# Altium schematic symbol library DRClib.SchLib: 31 symbols
Pins are listed as number, name and electrical type; pins without a type are passive.

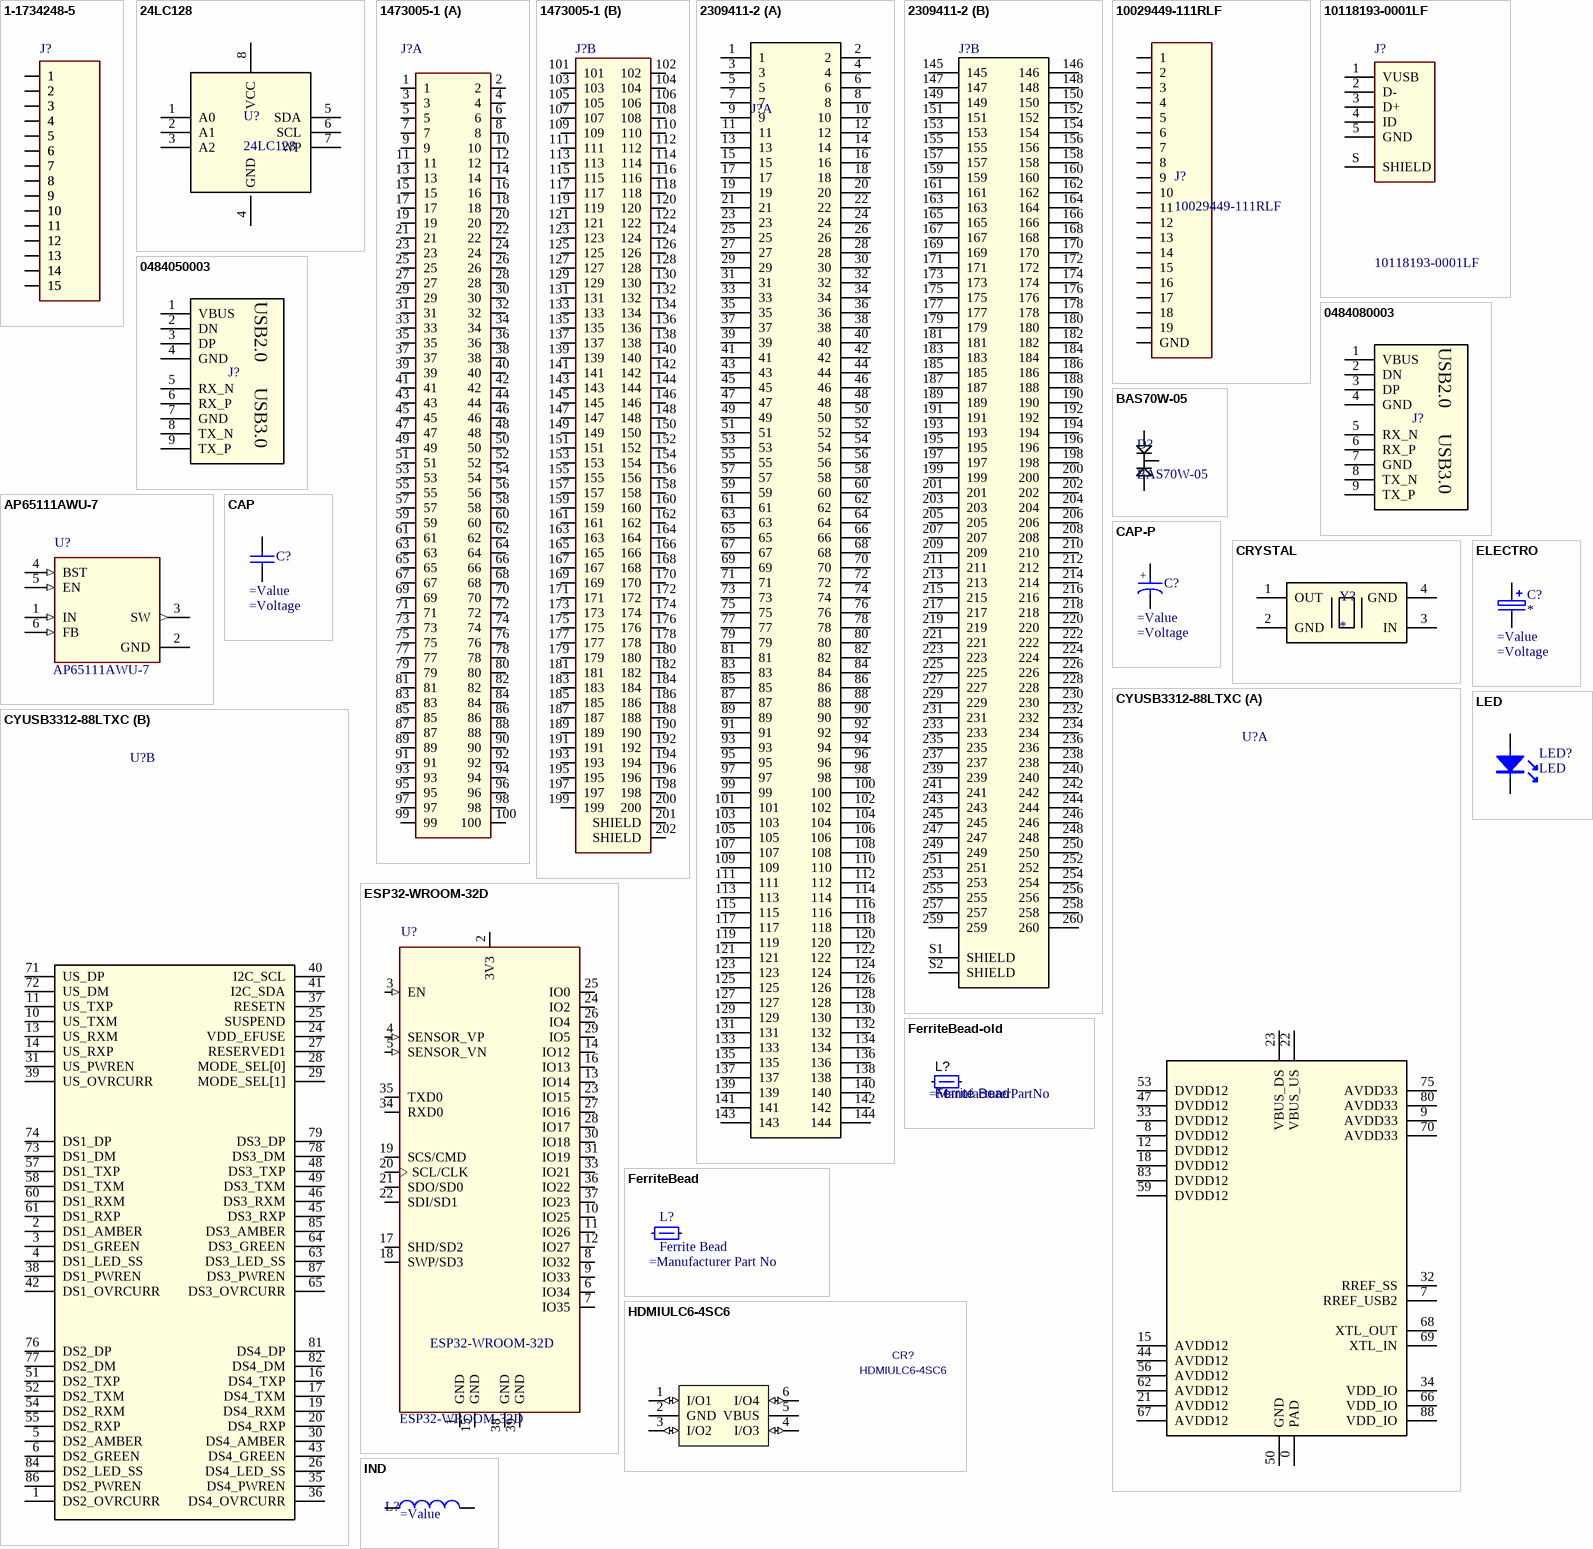
[diagram p0: symbols 1-1734248-5 to LED]

## 1-1734248-5
designator J?  (value not drawn)
Conn FPC Connector SKT 15 POS 1mm Solder ST SMD T/R; MF: TE Connectivity; Digi-Key_Part_Number: A101418CT-ND; Digi-Key_Purchase_URL: https://www.digikey.com.au/product-detail/en/te-connectivity-amp-connectors/1-1734248-5/A101418CT-ND/2567554?utm_source=snapeda&utm_medium=aggregator&utm_campaign=symbol; Package: None; SnapEDA_Link: https://www.snapeda.com/parts/1-1734248-5/TE%20Connectivity%20AMP%20Connectors/view-part/?ref=snap; TE_purchase_URL: https://www.te.com/usa-en/product-1-1734248-5.html?te_bu=Cor&te_type=disp&te_campaign=seda_glo_cor-seda-global-disp-prtnr-fy19-seda-model-bom-cta_sma-317_1&elqCampaignId=32493; MP: 1-1734248-5; EU_RoHS_Compliance: Compliant; Value: *
footprint *TE_1-1734248-5_1-1734248-5(Primary)
footprint 1-1734248-5
pins: 1, 1_1 1, 2, 2_1 2, 3, 3_1 3, 4, 4_1 4, 5, 5_1 5, 6, 6_1 6, 7, 7_1 7, 8, 8_1 8, 9, 9_1 9, 10, 10_1 10, 11, 11_1 11, 12, 12_1 12, 13, 13_1 13, 14, 14_1 14, 15, 15_1 15

## 24LC128
designator U?
IC EEPROM 128K I2C 400KHZ
footprint 24LC128T-I/SN (IC EEPROM 128K I2C 400KHZ 8SOIC)
pins: 1 A0, 2 A1, 3 A2, 4 GND, 5 SDA, 6 SCL, 7 WP, 8 VCC

## 1473005-1
designator J?  (value not drawn)
SEMI HARD TRAY DDR SOCKET 200P; Number_of_Positions: 200; Centerline_Pitch: .6 mm[.024 in]; MF: TE Connectivity; MP: 1473005-1; Product_Type: Socket; Digi-Key_Purchase_URL: https://www.digikey.com.au/product-detail/en/te-connectivity-amp-connectors/1473005-1/A99605-ND/1890691?utm_source=snapeda&utm_medium=aggregator&utm_campaign=symbol; SnapEDA_Link: https://www.snapeda.com/parts/1473005-1/TE%20Connectivity%20AMP%20Connectors/view-part/?ref=snap; TE_purchase_URL: https://www.te.com/usa-en/product-1473005-1.html?te_bu=Cor&te_type=disp&te_campaign=seda_glo_cor-seda-global-disp-prtnr-fy19-seda-model-bom-cta_sma-317_1&elqCampaignId=32493; Package: None; Digi-Key_Part_Number: A99605-ND; Value: *
footprint 1473005-1
part A pins: 1, 2, 3, 4, 5, 6, 7, 8, 9, 10, 11, 12, 13, 14, 15, 16, 17, 18, 19, 20, 21, 22, 23, 24, 25, 26, 27, 28, 29, 30, 31, 32, 33, 34, 35, 36, 37, 38, 39, 40, 41, 42, 43, 44, 45, 46, 47, 48, 49, 50, 51, 52, 53, 54, 55, 56, 57, 58, 59, 60, 61, 62, 63, 64, 65, 66, 67, 68, 69, 70, 71, 72, 73, 74, 75, 76, 77, 78, 79, 80, 81, 82, 83, 84, 85, 86, 87, 88, 89, 90, 91, 92, 93, 94, 95, 96, 97, 98, 99, 100
part B pins: 101, 102, 103, 104, 105, 106, 107, 108, 109, 110, 111, 112, 113, 114, 115, 116, 117, 118, 119, 120, 121, 122, 123, 124, 125, 126, 127, 128, 129, 130, 131, 132, 133, 134, 135, 136, 137, 138, 139, 140, 141, 142, 143, 144, 145, 146, 147, 148, 149, 150, 151, 152, 153, 154, 155, 156, 157, 158, 159, 160, 161, 162, 163, 164, 165, 166, 167, 168, 169, 170, 171, 172, 173, 174, 175, 176, 177, 178, 179, 180, 181, 182, 183, 184, 185, 186, 187, 188, 189, 190, 191, 192, 193, 194, 195, 196, 197, 198, 199, 200, 201 SHIELD, 202 SHIELD

## 2309411-2
designator J?  (value not drawn)
DDR4 SODIMM 260P 8.0H STD; Centerline_Pitch: .5 mm[.0197 in]; Number_of_Positions: 260; MF: TE Connectivity; Product_Type: Socket; MP: 2309411-2; SnapEDA_Link: https://www.snapeda.com/parts/2309411-2/TE%20Connectivity/view-part/?ref=snap; TE_purchase_URL: https://www.te.com/usa-en/product-2309411-2.html?te_bu=Cor&te_type=disp&te_campaign=seda_glo_cor-seda-global-disp-prtnr-fy19-seda-model-bom-cta_sma-317_1&elqCampaignId=32493; Package: None; EU_RoHS_Compliance: Compliant; Price: None; Value: *
footprint TE_2309411
part A pins: 1, 2, 3, 4, 5, 6, 7, 8, 9, 10, 11, 12, 13, 14, 15, 16, 17, 18, 19, 20, 21, 22, 23, 24, 25, 26, 27, 28, 29, 30, 31, 32, 33, 34, 35, 36, 37, 38, 39, 40, 41, 42, 43, 44, 45, 46, 47, 48, 49, 50, 51, 52, 53, 54, 55, 56, 57, 58, 59, 60, 61, 62, 63, 64, 65, 66, 67, 68, 69, 70, 71, 72, 73, 74, 75, 76, 77, 78, 79, 80, 81, 82, 83, 84, 85, 86, 87, 88, 89, 90, 91, 92, 93, 94, 95, 96, 97, 98, 99, 100, 101, 102, 103, 104, 105, 106, 107, 108, 109, 110, 111, 112, 113, 114, 115, 116, 117, 118, 119, 120, 121, 122, 123, 124, 125, 126, 127, 128, 129, 130, 131, 132, 133, 134, 135, 136, 137, 138, 139, 140, 141, 142, 143, 144
part B pins: 145, 146, 147, 148, 149, 150, 151, 152, 153, 154, 155, 156, 157, 158, 159, 160, 161, 162, 163, 164, 165, 166, 167, 168, 169, 170, 171, 172, 173, 174, 175, 176, 177, 178, 179, 180, 181, 182, 183, 184, 185, 186, 187, 188, 189, 190, 191, 192, 193, 194, 195, 196, 197, 198, 199, 200, 201, 202, 203, 204, 205, 206, 207, 208, 209, 210, 211, 212, 213, 214, 215, 216, 217, 218, 219, 220, 221, 222, 223, 224, 225, 226, 227, 228, 229, 230, 231, 232, 233, 234, 235, 236, 237, 238, 239, 240, 241, 242, 243, 244, 245, 246, 247, 248, 249, 250, 251, 252, 253, 254, 255, 256, 257, 258, 259, 260, S1 SHIELD, S2 SHIELD

## 10029449-111RLF
designator J?
CONN RCPT 1.4 HDMI 19POS R/A
footprint 10029449-111RLF (CONN RCPT 1.4 HDMI 19POS SMD R/A)
pins: 0 GND, 1, 2, 3, 4, 5, 6, 7, 8, 9, 10, 11, 12, 13, 14, 15, 16, 17, 18, 19

## 10118193-0001LF
designator J?
Single Port 5 Contact Shielded SMT MICRO USB B-Type Receptacle; MF: Amphenol ICC; Package: None; Digi-Key_Part_Number: 609-4616-1-ND; MP: 10118193-0001LF; Digi-Key_Purchase_URL: https://www.digikey.com.au/product-detail/en/amphenol-icc-fci/10118193-0001LF/609-4616-1-ND/2785380?utm_source=snapeda&utm_medium=aggregator&utm_campaign=symbol; SnapEDA_Link: https://www.snapeda.com/parts/10118193-0001LF/Amphenol%20ICC/view-part/?ref=snap; Value: *
footprint 10118193-0001LF
pins: 1 VUSB, 2 D-, 3 D+, 4 ID, 5 GND, S SHIELD

## 0484050003
designator J?
USB3.0 Recepticle Right Angle
footprint 0484050003 (USB3.0 Recepticle)
pins: 1 VBUS, 2 DN, 3 DP, 4 GND, 5 RX_N, 6 RX_P, 7 GND, 8 TX_N, 9 TX_P
text: USB2.0; USB3.0

## 0484080003
designator J?
USB3.0 Recepticle Vertical
footprint 0484080003 (USB3.0 Recepticle)
pins: 1 VBUS, 2 DN, 3 DP, 4 GND, 5 RX_N, 6 RX_P, 7 GND, 8 TX_N, 9 TX_P
text: USB2.0; USB3.0

## AP65111AWU-7
designator U?
Dcdc Conv Hv Buck Tsot26 t&r 3k; MF: Diodes Inc.; Digi-Key_Purchase_URL: https://www.digikey.com.au/product-detail/en/diodes-incorporated/AP65111AWU-7/AP65111AWU-7DICT-ND/7652826?utm_source=snapeda&utm_medium=aggregator&utm_campaign=symbol; MP: AP65111AWU-7; Package: TSOT-23-6 Diodes Inc.; SnapEDA_Link: https://www.snapeda.com/parts/AP65111AWU-7/Diodes%20Inc./view-part/?ref=snap; Digi-Key_Part_Number: AP65111AWU-7DICT-ND; Value: *
footprint SOT95P280X100-6N
pins: 1 IN (in), 2 GND (power), 3 SW (out), 4 BST (in), 5 EN (in), 6 FB (in)

## BAS70W-05
designator D?
SURFACE MOUNT SCHOTTKY BARRIER DIODE; Manufacturers Part No: BAS70W-05
footprint SOT323-3
pins: 1 0, 2 0, 3 0

## CAP
designator C?  (value not drawn)
=Description; Value: =Value; Voltage: =Voltage
footprint C0603
pins: 1, 2

## CAP-P
designator C?  (value not drawn)
=Description; Value: =Value; Voltage: =Voltage
pins: 1, 2
text: +

## CRYSTAL
designator Y?
footprint NX3225SA-26.000000MHZ-G4
pins: 1 OUT, 2 GND, 3 IN, 4 GND

## CYUSB3312-88LTXC
designator U?
USB3.0 Hub; Centerline_Pitch: .5 mm[.0197 in]; MP: 2309411-2; Number_of_Positions: 260; MF: TE Connectivity; Product_Type: Socket; SnapEDA_Link: https://www.snapeda.com/parts/2309411-2/TE%20Connectivity/view-part/?ref=snap; TE_purchase_URL: https://www.te.com/usa-en/product-2309411-2.html?te_bu=Cor&te_type=disp&te_campaign=seda_glo_cor-seda-global-disp-prtnr-fy19-seda-model-bom-cta_sma-317_1&elqCampaignId=32493; Package: None; EU_RoHS_Compliance: Compliant; Price: None; Value: *
footprint QFN88
part A pins: 0 PAD, 7 RREF_USB2, 8 DVDD12, 9 AVDD33, 12 DVDD12, 15 AVDD12, 18 DVDD12, 21 AVDD12, 22 VBUS_US, 23 VBUS_DS, 32 RREF_SS, 33 DVDD12, 34 VDD_IO, 44 AVDD12, 47 DVDD12, 50 GND, 53 DVDD12, 56 AVDD12, 59 DVDD12, 62 AVDD12, 66 VDD_IO, 67 AVDD12, 68 XTL_OUT, 69 XTL_IN, 70 AVDD33, 75 AVDD33, 80 AVDD33, 83 DVDD12, 88 VDD_IO
part B pins: 1 DS2_OVRCURR, 2 DS1_AMBER, 3 DS1_GREEN, 4 DS1_LED_SS, 5 DS2_AMBER, 6 DS2_GREEN, 10 US_TXM, 11 US_TXP, 13 US_RXM, 14 US_RXP, 16 DS4_TXP, 17 DS4_TXM, 19 DS4_RXM, 20 DS4_RXP, 24 VDD_EFUSE, 25 SUSPEND, 26 DS4_LED_SS, 27 RESERVED1, 28 MODE_SEL[0], 29 MODE_SEL[1], 30 DS4_AMBER, 31 US_PWREN, 35 DS4_PWREN, 36 DS4_OVRCURR, 37 RESETN, 38 DS1_PWREN, 39 US_OVRCURR, 40 I2C_SCL, 41 I2C_SDA, 42 DS1_OVRCURR, 43 DS4_GREEN, 45 DS3_RXP, 46 DS3_RXM, 48 DS3_TXP, 49 DS3_TXM, 51 DS2_TXP, 52 DS2_TXM, 54 DS2_RXM, 55 DS2_RXP, 57 DS1_TXP, 58 DS1_TXM, 60 DS1_RXM, 61 DS1_RXP, 63 DS3_LED_SS, 64 DS3_GREEN, 65 DS3_OVRCURR, 71 US_DP, 72 US_DM, 73 DS1_DM, 74 DS1_DP, 76 DS2_DP, 77 DS2_DM, 78 DS3_DM, 79 DS3_DP, 81 DS4_DP, 82 DS4_DM, 84 DS2_LED_SS, 85 DS3_AMBER, 86 DS2_PWREN, 87 DS3_PWREN

## ELECTRO
designator C?
=Description; Voltage: =Voltage; Value: =Value
pins: 1, 2

## ESP32-WROOM-32D
designator U?
IC: SoC; GPIO, I2C, I2S, IR, SD, SDIO, SPI, UART; 2.7Ã·3.6VDC; 20dBm; MF: Espressif Systems; MP: ESP32-WROOM-32D; Package: Module Espressif Systems; Price: None; Availability: Unavailable; SnapEDA_Link: https://www.snapeda.com/parts/ESP32-WROOM-32D/Espressif%20Systems/view-part/?ref=snap; Value: *
footprint ESP32-WROOM-32D
pins: 1 GND (power), 2 3V3 (power), 3 EN (in), 4 SENSOR_VP (in), 5 SENSOR_VN (in), 6 IO34 (io), 7 IO35 (io), 8 IO32 (io), 9 IO33 (io), 10 IO25 (io), 11 IO26 (io), 12 IO27 (io), 13 IO14 (io), 14 IO12 (io), 15 GND (power), 16 IO13 (io), 17 SHD/SD2 (io), 18 SWP/SD3 (io), 19 SCS/CMD (io), 20 SCL/CLK (io), 21 SDO/SD0 (io), 22 SDI/SD1 (io), 23 IO15 (io), 24 IO2 (io), 25 IO0 (io), 26 IO4 (io), 27 IO16 (io), 28 IO17 (io), 29 IO5 (io), 30 IO18 (io), 31 IO19 (io), 33 IO21 (io), 34 RXD0 (io), 35 TXD0 (io), 36 IO22 (io), 37 IO23 (io), 38 GND (power), 39 GND (power)

## FerriteBead
designator L?, comment Ferrite Bead
=Description; Manufacturer Part No: =Manufacturer Part No
pins: 1, 2

## FerriteBead-old
designator L?, comment Ferrite Bead
=Description; Manufacturer Part No: =ManufacturerPartNo
pins: 1, 2

## HDMIULC6-4SC6
designator CR?
C: Copyright (C) 2015 Accelerated Designs. All rights reserved; Vendor: STMicroelectronics; Built_By: EMA_UL_Team; Value: HDMIULC6-4SC6; Manufacturer_Part_Number: HDMIULC6-4SC6
footprint SOT23-6L
pins: 1 I/O1 (io), 2 GND (power), 3 I/O2 (io), 4 I/O3 (io), 5 VBUS (power), 6 I/O4 (io)

## IND
designator L?
=Description; Value: =Value
pins: 1, 2

## LED
designator LED?
footprint 0603-LED
pins: A, K

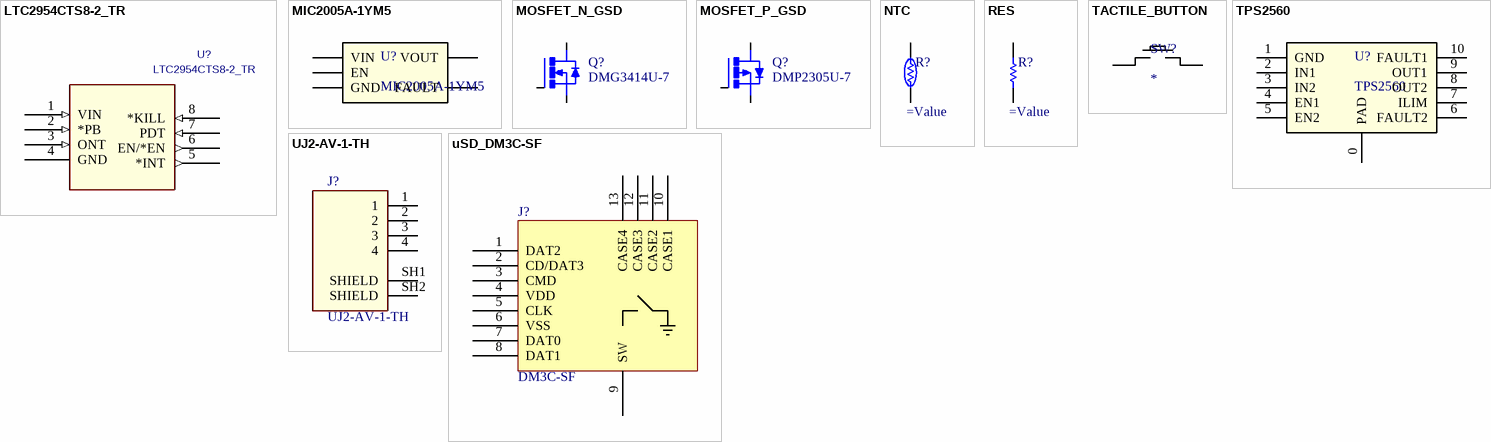
[diagram p1: symbols LTC2954CTS8-2_TR to uSD_DM3C-SF]

## LTC2954CTS8-2_TR
designator U?
Manufacturer_Part_Number: LTC2954CTS8-2#TRMPBF; Vendor: Linear Technology; Built_By: EMA_UL_Team; Value: LTC2954CTS8-2_TR
footprint TSOT-23_TS8
pins: 1 VIN (in), 2 *PB (in), 3 ONT (in), 4 GND (power), 5 *INT (out), 6 EN/*EN (out), 7 PDT (in), 8 *KILL (in)

## MIC2005A-1YM5
designator U?
Power Switch/Driver 1:1 P-Channel 500mA SOT-23-5; Manufacturer Part No: MIC2005A-1YM5
footprint SOT23-5
pins: 1 VIN, 2 GND, 3 EN, 4 FAULT, 5 VOUT

## MOSFET_N_GSD
designator Q?, comment DMG3414U-7
=Description; Manufacturer Part No: DMG3414U-7
footprint SOT23-3
pins: 1 G, 2 S, 3 D

## MOSFET_P_GSD
designator Q?, comment DMP2305U-7
=Description; Manufacturer Part No: DMP2305U-7
footprint SOT23-3
pins: 1 G, 2 S, 3 D

## NTC
designator R?
=Description; Value: =Value
pins: 1, 2

## RES
designator R?
=Description; Value: =Value
footprint R0603
pins: 1, 2

## TACTILE_BUTTON
designator SW?
footprint TACTILE_BUTTOn
pins: 1, 2 1

## TPS2560
designator U?
IC PWR SWITCH N-CHAN 1:2 10VSON
footprint VSON10
pins: 0 PAD, 1 GND, 2 IN1, 3 IN2, 4 EN1, 5 EN2, 6 FAULT2, 7 ILIM, 8 OUT2, 9 OUT1, 10 FAULT1

## UJ2-AV-1-TH
designator J?
Standard A Type 4 Pin Vertical 3 Âµin Plating Through Hole USB Jack 2.0; MF: CUI Inc.; Digi-Key_Part_Number: 102-3995-ND; Digi-Key_Purchase_URL: https://www.digikey.com.au/product-detail/en/cui-inc/UJ2-AV-1-TH/102-3995-ND/6187910?utm_source=snapeda&utm_medium=aggregator&utm_campaign=symbol; Package: None; SnapEDA_Link: https://www.snapeda.com/parts/UJ2-AV-1-TH/CUI%20Inc./view-part/?ref=snap; MP: UJ2-AV-1-TH; CUI_purchase_URL: https://www.cui.com/product/interconnect/usb-connectors/type-a/uj2-av-th-series?utm_source=snapeda.com&utm_medium=referral&utm_campaign=snapedaBOM; Value: *
footprint UJ2-AV-1-TH
pins: 1, 2, 3, 4, SH1 SHIELD, SH2 SHIELD

## uSD_DM3C-SF
designator J?, comment DM3C-SF
=description
footprint USD_DM3CS
pins: 1 DAT2, 2 CD/DAT3, 3 CMD, 4 VDD, 5 CLK, 6 VSS, 7 DAT0, 8 DAT1, 9 SW, 10 CASE1, 11 CASE2, 12 CASE3, 13 CASE4